# EAGLE library part WIRL-LORA_2618011181000 (library WE_WIRL_Rev13.0)
Daphnis-I - LoRaWAN Radio Module 868 MHz WIRL-LORA Details see: https://we-online.de/katalog/en/article/2618011181000/
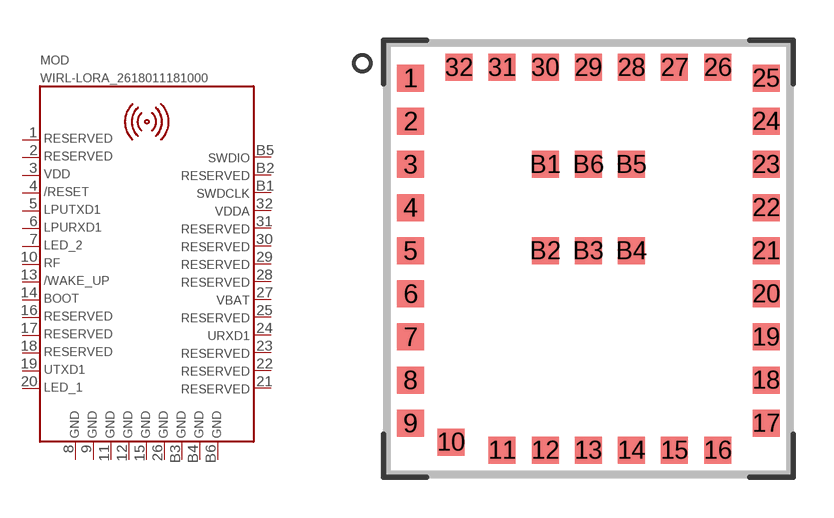
[diagram p39: symbol with the pads of WE-FP-8; footprint WE-FP-8]

Designator prefix MOD

## WIRL-LORA_2618011181000 (HEIGHT: 3.0mm; MANUFACTURER: Würth Elektronik; NR: 2618011181000; PACK: SMT)  [WE-FP-8]
1  1
2  2
3  3  pwr
4  4
5  5
6  6
7  7
8  8  pwr
9  9  pwr
10  10
11  11  pwr
12  12  pwr
13  13
14  14
15  15  pwr
16  16
17  17
18  18
19  19
20  20
21  21
22  22
23  23
24  24
25  25
26  26  pwr
27  27  pwr
28  28
29  29
30  30
31  31
32  32  pwr
B1  B1
B2  B2
B3  B3  pwr
B4  B4  pwr
B5  B5
B6  B6  pwr

## Footprint WE-FP-8 (pad centres in mm)
Daphnis-I - LoRaWAN Radio Module 868 MHz WIRL-LORA Details see: https://we-online.de/katalog/en/article/2618011181000/
smd 1 x 1: 1 -6.6,6.7; 2 -6.6,5.1; 3 -6.6,3.5; 4 -6.6,1.9; 5 -6.6,0.3; 6 -6.6,-1.3; 7 -6.6,-2.9; 8 -6.6,-4.5; 9 -6.6,-6.1; 10 -5.1,-6.8; 11 -3.2,-7.1; 12 -1.6,-7.1; 13 0,-7.1; 14 1.6,-7.1; 15 3.2,-7.1; 16 4.8,-7.1; 17 6.6,-6.1; 18 6.6,-4.5; 19 6.6,-2.9; 20 6.6,-1.3; 21 6.6,0.3; 22 6.6,1.9; 23 6.6,3.5; 24 6.6,5.1; 25 6.6,6.7; 26 4.8,7.1; 27 3.2,7.1; 28 1.6,7.1; 29 0,7.1; 30 -1.6,7.1; 31 -3.2,7.1; 32 -4.8,7.1; B1 -1.6,3.5; B2 -1.6,0.3; B3 0,0.3; B4 1.6,0.3; B5 1.6,3.5; B6 0,3.5